# Altium footprint library R0603.PcbLib: 1 footprints
Each footprint in its own frame and in the unit in brackets; x right, y up, seen from the top. Pads: shape width x height; smd on the part's side, far side on the other; paste and mask are expansions set on the pad; w line width, h text height; cw(c..) or ccw(c..) is an arc to the next point about the centre after c.
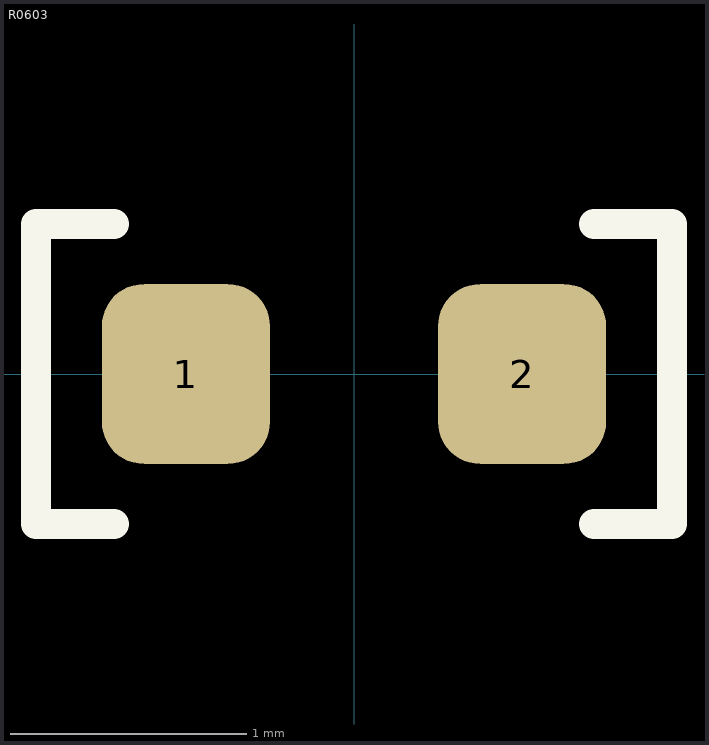
[diagram p0: the footprint, top view; thin cyan lines are the x and y axes]

## R0603 [mil]
pads (2):
  rrect50% 28x30 smd: 1(-28,0) 2(28,0)
TopOverlay:
  lines w5: -40,-25 -53,-25 -53,25 -40,25 ; 40,-25 53,-25 53,25 40,25
3D body: height 17.72, standoff 0, extent -31.49,-16.14 31.5,16.14